# Altium footprint library CAF-40P155X80-8N.PcbLib: 1 footprints
Each footprint in its own frame and in the unit in brackets; x right, y up, seen from the top. Pads: shape width x height; smd on the part's side, far side on the other; paste and mask are expansions set on the pad; w line width, h text height; cw(c..) or ccw(c..) is an arc to the next point about the centre after c.
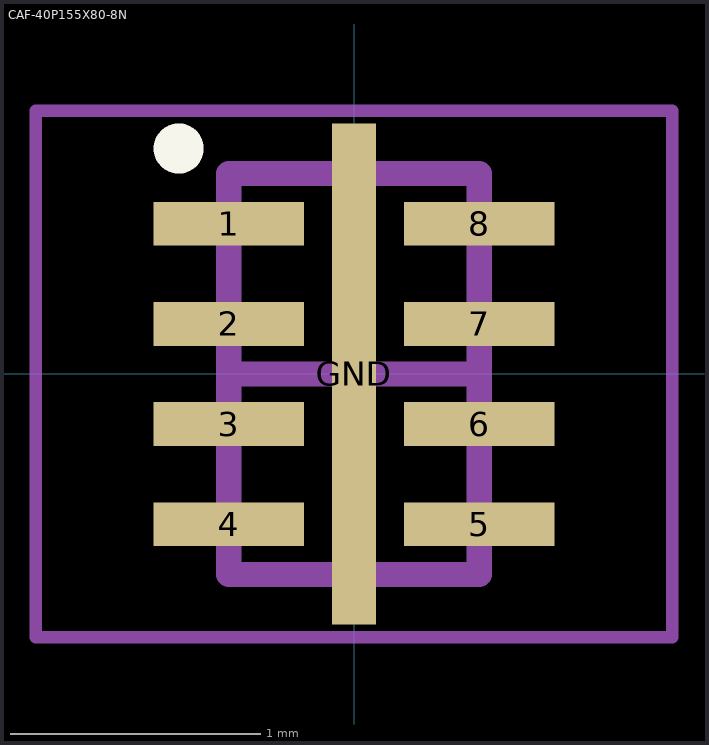
[diagram p0: the footprint, top view; thin cyan lines are the x and y axes]

## CAF-40P155X80-8N [mm] "Chip Array, Flat, 8-Leads, Pitch 0.40mm,  Body 1.55x0.80mm,  IPC Medium Density"
height 0.6
pads (9):
  rect 0.6x0.175 smd: 1(-0.5,0.6) 2(-0.5,0.2) 3(-0.5,-0.2) 4(-0.5,-0.6) 5(0.5,-0.6) 6(0.5,-0.2) 7(0.5,0.2) 8(0.5,0.6)
  rect 0.175x2 smd: GND(0,0)
Top Overlay:
  circle w0.1: c-0.7,0.9 r0.05
Mechanical 13:
  lines w0.1: -0.5,-0.8 0.5,-0.8 0.5,0.8 -0.5,0.8 -0.5,-0.8
Mechanical 15:
  lines w0.05: -1.27,-1.05 1.27,-1.05 1.27,1.05 -1.27,1.05 -1.27,-1.05
  lines w0.1: -0.5,0 0.5,0 ; 0,-0.5 0,0.5
3D body: height 0.6, standoff 0, extent -0.45,-0.8 0.45,0.8